# EAGLE library part AD8129 (library opamp_comparator)
AD8129/AD8130 Low Cost 270 MHz Differential Receiver Amplifiers
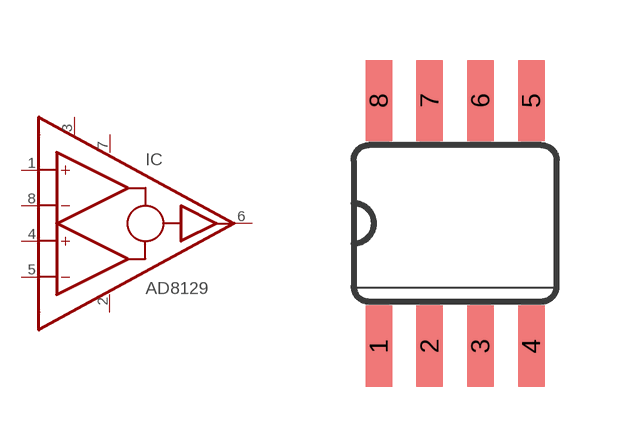
[diagram p4: symbol with the pads of SO08; footprint SO08]

Designator prefix IC

## AD8129  [SO08]
1  +IN  in
2  V-  pwr
3  !PD  in
4  +IN1  in
5  -IN1  in
6  OUT  out
7  V+  pwr
8  -IN  in

## Footprint SO08 (pad centres in mm)
Small Outline package 8 150 mil
smd 0.66 x 2.032: 1 -1.905,-3.073; 2 -0.635,-3.073; 3 0.635,-3.073; 4 1.905,-3.073; 5 1.905,3.073; 6 0.635,3.073; 7 -0.635,3.073; 8 -1.905,3.073